# EAGLE library part FTSH-105 (library balto)
FTSH-105-XX-XXX-DV-X
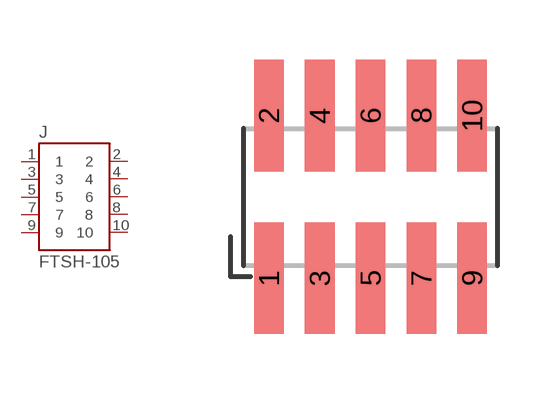
[diagram p76: symbol with the pads of FTSH-105; footprint FTSH-105]

Designator prefix J

## FTSH-105  [FTSH-105]
1  1
2  2
3  3
4  4
5  5
6  6
7  7
8  8
9  9
10  10

## Footprint FTSH-105 (pad centres in mm)
FTSH-105-XX-XXX-DV-X
smd 0.74 x 2.79: 1 -2.54,-2.035; 2 -2.54,2.035; 3 -1.27,-2.035; 4 -1.27,2.035; 5 0,-2.035; 6 0,2.035; 7 1.27,-2.035; 8 1.27,2.035; 9 2.54,-2.035; 10 2.54,2.035